# Altium footprint library RV16A-41.PcbLib: 1 footprints
Each footprint in its own frame and in the unit in brackets; x right, y up, seen from the top. Pads: shape width x height; smd on the part's side, far side on the other; paste and mask are expansions set on the pad; w line width, h text height; cw(c..) or ccw(c..) is an arc to the next point about the centre after c.
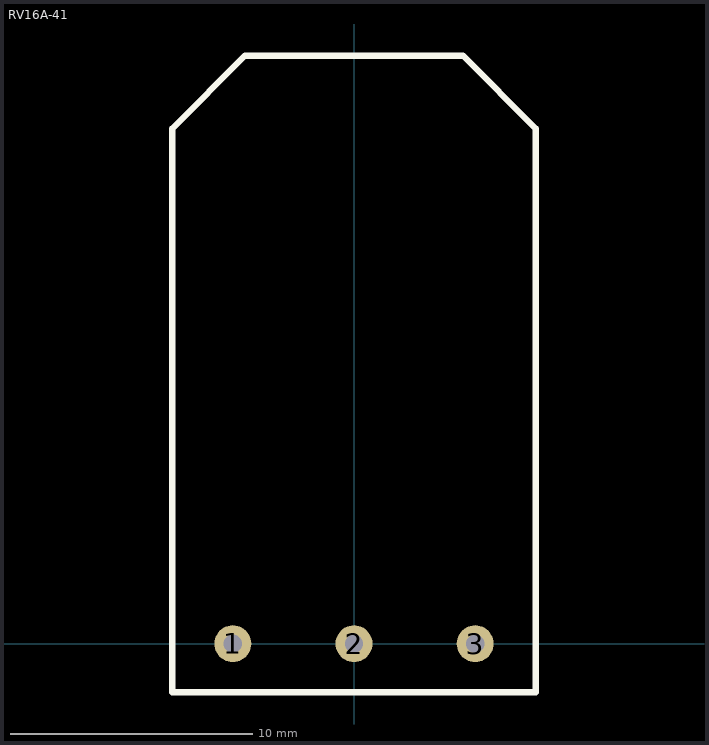
[diagram p0: the footprint, top view; thin cyan lines are the x and y axes]

## RV16A-41 [mil]
pads (3):
  round 60 hole 30: 1(-196.85,0) 2(0,0) 3(196.85,0)
Top Overlay:
  lines w10: -295.28,-78.74 -295.28,836.61 -177.17,954.72 177.17,954.72 295.28,836.61 295.28,-78.74 -295.28,-78.74